# EAGLE library part WE-RJ45_7499211122A (library Wurth_Signal & Communications_WE-RJ45_LAN)
WE-RJ45 LAN Transformer Characteristics RJ45 Connector with integrated transformer / common mode choke Power over Ethernet up to 50 Watt and speeds up to 10 Gbit/s Available in SMD, THT and THT with USB Compliant with standards: IEEE 802.3u, IEEE 802.3ab, IEEE 802.3af, IEEE 802.3at, IEEE 802.3an and upcoming IEE 802.3bt Applications Suitable for industrial temperatures from –40 °C up to +85 °C Compatible to Industrial Ethernet systems like EtherCAT or Profinet Compliant with most IC’s for Ethernet applications such as Microchip, Texas Instruments, Broadcom, Linear Technology Hubs, Routers, Switches, IP cameras, IoT applications <https://www.we-online.com/components/media/o35731v209%20Family-WE-RJ45LAN-7499xxxxxx.jpg> Details see: www.we-online.com/components/products/WE-LAN-RJ45 <www.we-online.com/catalog/WE-LAN-RJ45/?utm_source=eagle_model&utm_medium=description_link&utm_campaign=eisos_eagle> Updated by Ella Wu 2023-08-16 2023 (C) Wurth Elektronik
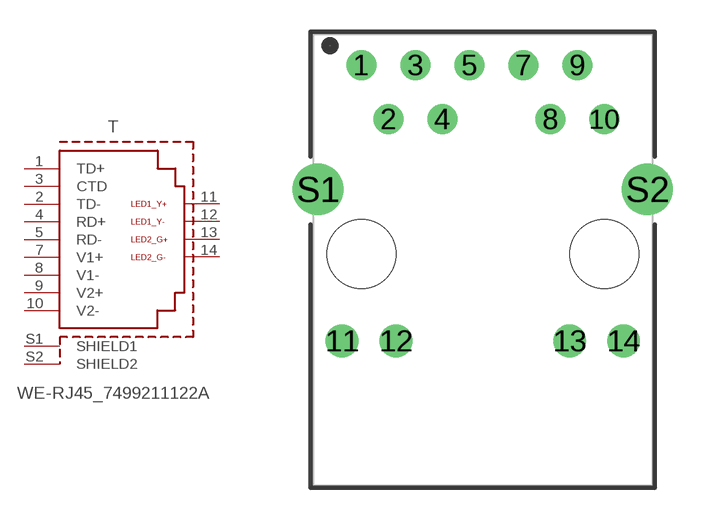
[diagram p37: symbol with the pads of 7499211122A; footprint 7499211122A]

Designator prefix T

## WE-RJ45_7499211122A (DATA-RATE: 10/100 Base-T; DATASHEET-URL: https://www.we-online.com/redexpert/spec/7499211122A?ae; LED: yellow-green; MOUNT: THT; PART-NUMBER: 7499211122A; POE: PoE (up to 350 mA); PORTS: 1; USB: No; VALUE: 7499211122A)  [7499211122A]
1  TD+  pas
2  TD-  pas
3  CTD  pas
4  RD+  pas
5  RD-  pas
7  V1+  pas
8  V1-  pas
9  V2+  pas
10  V2-  pas
11  LED1_Y+  pas
12  LED1_Y-  pas
13  LED2_G+  pas
14  LED2_G-  pas
S1  SHIELD1  pas
S2  SHIELD2  pas

## Footprint 7499211122A (pad centres in mm)
WE-RJ45 LAN Transformer 10/100 Base-T
drill 0.9: 1 -5.715,8.89; 2 -4.445,6.35; 3 -3.175,8.89; 4 -1.905,6.35; 5 -0.635,8.89; 7 1.905,8.89; 8 3.175,6.35; 9 4.445,8.89; 10 5.715,6.35
drill 1.03: 11 -6.625,-4.08; 12 -4.085,-4.08; 13 4.085,-4.08; 14 6.625,-4.08
drill 1.6: S1 -7.745,3.05; S2 7.745,3.05
hole 3.25 at -5.715,0
hole 3.25 at 5.715,0